# Altium integrated library TI Data Converters Analog to Digital Converter.IntLib: 2197 symbols (part 134 of 168)
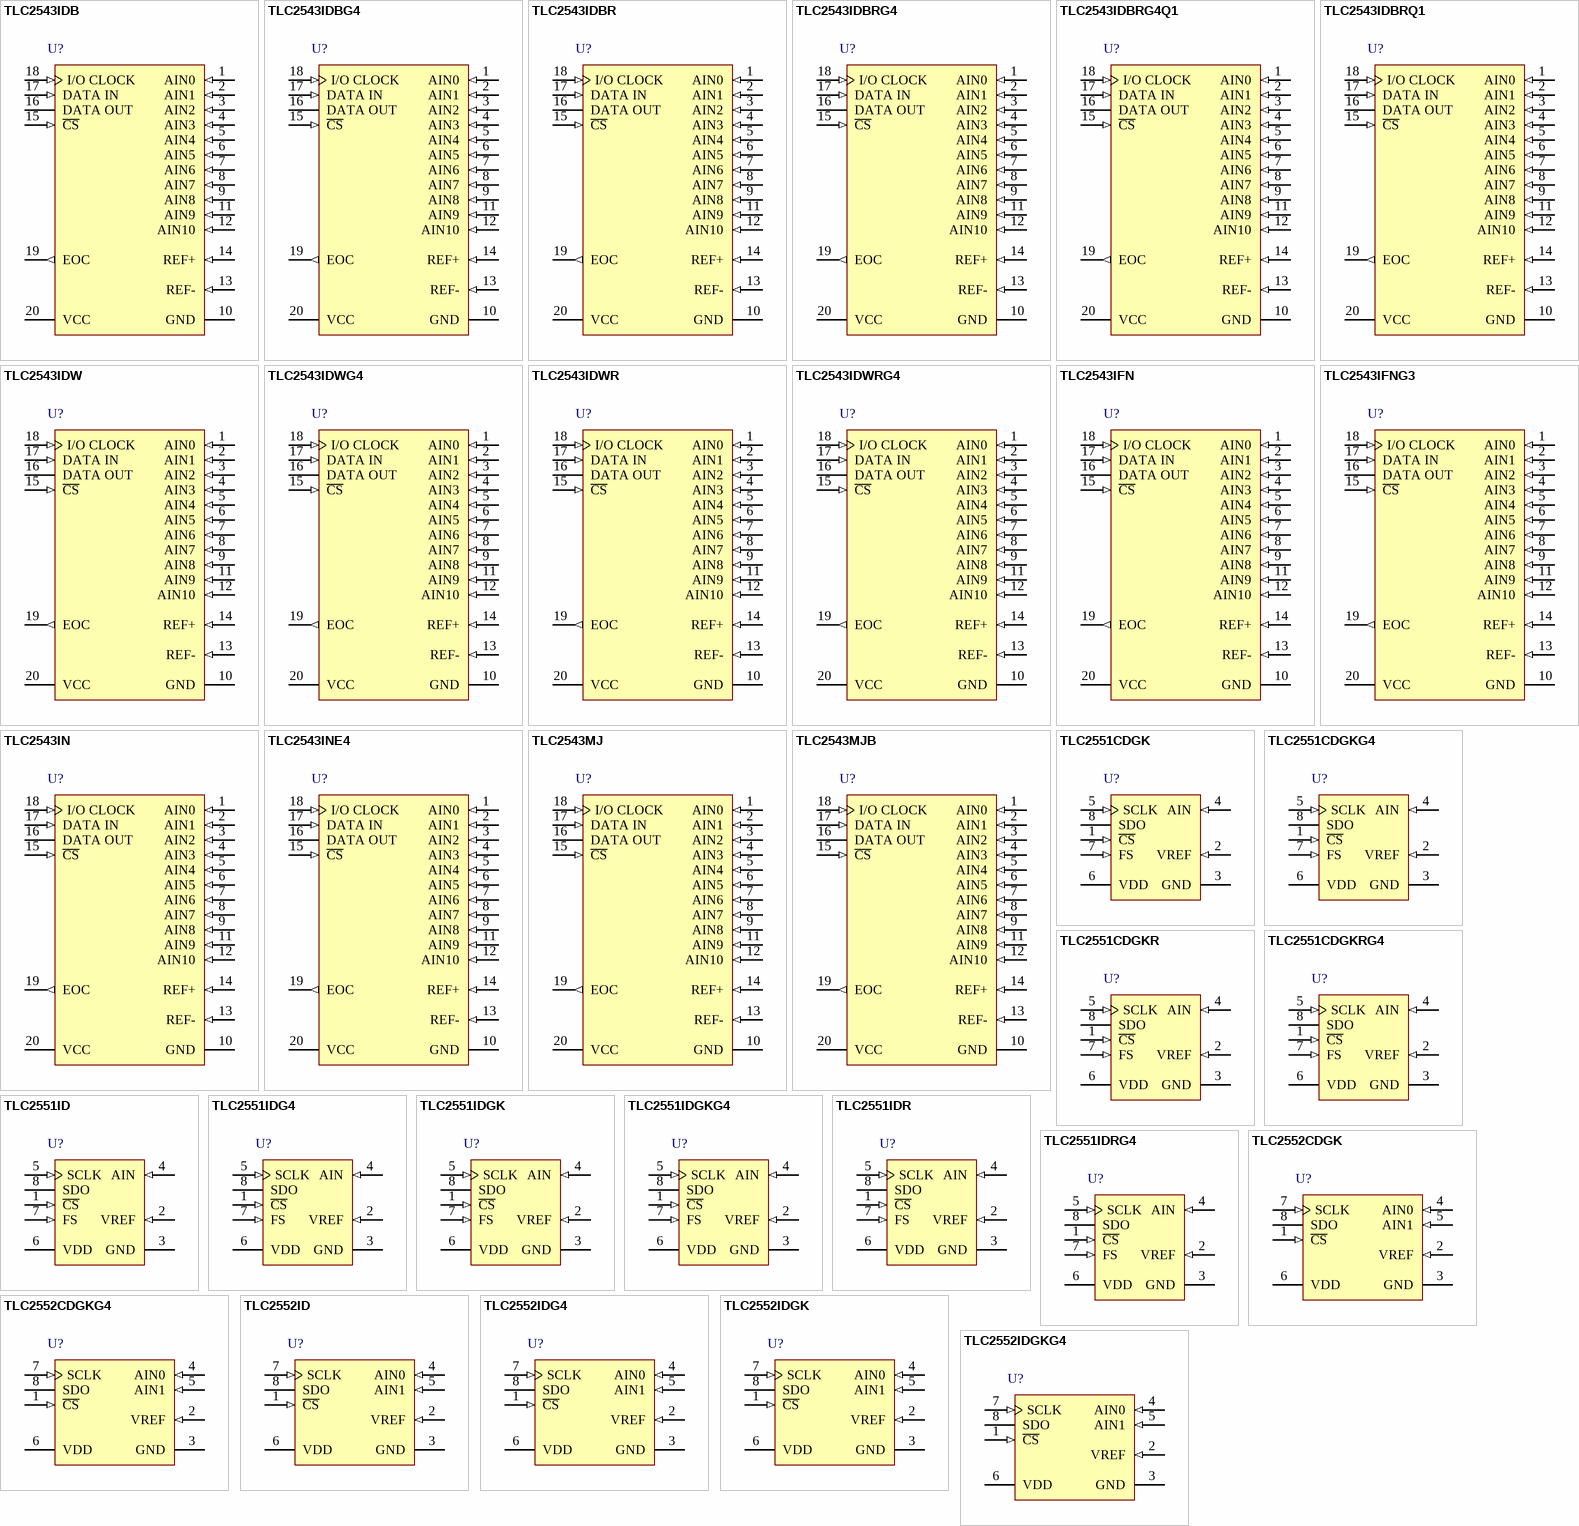
[diagram p259: symbols TLC2543IDB to TLC2552IDGKG4]

## TLC2543IFN
designator U?
12-Bit 66 kSPS ADC Serial Out, Programmable MSB / LSB First, Programmable Power Down / Output Data Length, 11 Channel, -40 to 85 degC, 20-pin PLCC (FN20), Green (RoHS & no Sb/Br); Manufacturer: Texas Instruments; PartNumber: TLC2543IFN; # Input Channels: 11; Analog Voltage AV/DD(Max)(V): 5.5; Analog Voltage AV/DD(Min)(V): 4.5; Architecture: SAR; INL(Max)(+/-LSB): 1; Interface: Serial SPI; Resolution(Bits): 12; Sample Rate (max)(SPS): 66k; SubFamily: Precision ADC (<=10MSPS); DatasheetVersion: SLAS079F; PackageVersion: 4040005/B, 03/1995; PackageReference: FN20; PackageDescription: 20-Pin Plastic Chip Carrier, Body 8.965 x 8.965 mm, Pitch 1.27 mm; Supplier 1: Digi-Key; Supplier Part Number 1: TLV1549IDG4-ND; Supplier 2: Mouser; Supplier Part Number 2: 595-TLV1549IDG4; Digital Supply(Max)(V): 5.5; Digital Supply(Min)(V): 4.5; Eco-Plan: Green (RoHS & no Sb/Br); Mounting Technology: Surface Mount; Code_JEDEC: MS-018; ComponentLink1Description: Manufacturer URL; ComponentLink1URL: http://www.ti.com/; ComponentLink2Description: Datasheet; ComponentLink2URL: http://www.ti.com/general/docs/lit/getliterature.tsp?genericPartNumber=TLC2543&fileType=pdf; ComponentLink3Description: Package Specification; ComponentLink3URL: http://www.ti.com/litv/pdf/mplc004a
footprint TI-FN20_N (PLCC, 20-Leads, Body 8.965x8.965mm, Pitch 1.27mm, IPC Medium Density)
footprint TI-FN20_L (PLCC, 20-Leads, Body 8.965x8.965mm, Pitch 1.27mm, IPC High Density)
footprint TI-FN20_M (PLCC, 20-Leads, Body 8.965x8.965mm, Pitch 1.27mm, IPC Low Density)
pins: 1 AIN0 (in) "Analog input. These 11 analog-signal inputs are internally multiplexed.", 2 AIN1 (in) "Analog input. These 11 analog-signal inputs are internally multiplexed.", 3 AIN2 (in) "Analog input. These 11 analog-signal inputs are internally multiplexed.", 4 AIN3 (in) "Analog input. These 11 analog-signal inputs are internally multiplexed.", 5 AIN4 (in) "Analog input. These 11 analog-signal inputs are internally multiplexed.", 6 AIN5 (in) "Analog input. These 11 analog-signal inputs are internally multiplexed.", 7 AIN6 (in) "Analog input. These 11 analog-signal inputs are internally multiplexed.", 8 AIN7 (in) "Analog input. These 11 analog-signal inputs are internally multiplexed.", 9 AIN8 (in) "Analog input. These 11 analog-signal inputs are internally multiplexed.", 10 GND (power) "Ground. GND is the ground return terminal for the internal circuitry. Unless otherwise noted, all voltage measurements are with respect to GND.", 11 AIN9 (in) "Analog input. These 11 analog-signal inputs are internally multiplexed.", 12 AIN10 (in) "Analog input. These 11 analog-signal inputs are internally multiplexed.", 13 REF- (in) "Negative reference voltage. The lower reference voltage value (nominally ground) is applied to REF-. This pin is connected to analog ground (GND of the ADC) when internal reference is used.", 14 REF+ (in) "Positive reference voltage The upper reference voltage value (nominally VCC) is applied to REF+. The maximum analog input voltage range is determined by the difference between the voltage applied to terminals REF+ and REF-.", 15 ~{CS} (in) "Chip select. A high-to-low transition on C\S\ resets the internal counters and controls and enables DATA OUT, DATA IN, and I/O CLOCK. A low-to-high transition disables DATA IN and I/O CLOCK within a setup time.", 16 DATA OUT (hiz) "The 3-state serial output for the A/D conversion result. DATA OUT is in the high-impedance state when C\S\ is high and active when C\S\ is low. With a valid C\S\, DATA OUT is removed from the high-impedance state and is (See Datasheet)", 17 DATA IN (in) "Serial data input. The 4-bit serial data can be used as address selects the desired analog input channel or test voltage to be converted next, or a command to activate other other features. The input data is presented with (See Datasheet)", 18 I/O CLOCK (in) "Input /output clock. I/O CLOCK receives the serial input and performs the following four functions:", 19 EOC (out) "Status output, used to indicate the end of conversion (EOC) to the host processor. EOC goes from a high to a low logic level after the falling edge of the last I/O CLOCK and remains low until the conversion is complete and (See Datasheet)", 20 VCC (power) "Positive supply voltage"

## TLC2543IFNG3
designator U?
12-Bit 66 kSPS ADC Serial Out, Programmable MSB / LSB First, Programmable Power Down / Output Data Length, 11 Channel, -40 to 85 degC, 20-pin PLCC (FN20), Green (RoHS & no Sb/Br); Manufacturer: Texas Instruments; PartNumber: TLC2543IFNG3; # Input Channels: 11; Analog Voltage AV/DD(Max)(V): 5.5; Analog Voltage AV/DD(Min)(V): 4.5; Architecture: SAR; INL(Max)(+/-LSB): 1; Interface: Serial SPI; Resolution(Bits): 12; Sample Rate (max)(SPS): 66k; SubFamily: Precision ADC (<=10MSPS); DatasheetVersion: SLAS079F; PackageVersion: 4040005/B, 03/1995; PackageReference: FN20; PackageDescription: 20-Pin Plastic Chip Carrier, Body 8.965 x 8.965 mm, Pitch 1.27 mm; Supplier 1: Digi-Key; Supplier Part Number 1: 296-2965-5-ND; Supplier 2: Mouser; Supplier Part Number 2: 595-TLV1549IP; Digital Supply(Max)(V): 5.5; Digital Supply(Min)(V): 4.5; Eco-Plan: Green (RoHS & no Sb/Br); Mounting Technology: Surface Mount; Code_JEDEC: MS-018; ComponentLink1Description: Manufacturer URL; ComponentLink1URL: http://www.ti.com/; ComponentLink2Description: Datasheet; ComponentLink2URL: http://www.ti.com/general/docs/lit/getliterature.tsp?genericPartNumber=TLC2543&fileType=pdf; ComponentLink3Description: Package Specification; ComponentLink3URL: http://www.ti.com/litv/pdf/mplc004a
footprint TI-FN20_N (PLCC, 20-Leads, Body 8.965x8.965mm, Pitch 1.27mm, IPC Medium Density)
footprint TI-FN20_L (PLCC, 20-Leads, Body 8.965x8.965mm, Pitch 1.27mm, IPC High Density)
footprint TI-FN20_M (PLCC, 20-Leads, Body 8.965x8.965mm, Pitch 1.27mm, IPC Low Density)
pins: 1 AIN0 (in) "Analog input. These 11 analog-signal inputs are internally multiplexed.", 2 AIN1 (in) "Analog input. These 11 analog-signal inputs are internally multiplexed.", 3 AIN2 (in) "Analog input. These 11 analog-signal inputs are internally multiplexed.", 4 AIN3 (in) "Analog input. These 11 analog-signal inputs are internally multiplexed.", 5 AIN4 (in) "Analog input. These 11 analog-signal inputs are internally multiplexed.", 6 AIN5 (in) "Analog input. These 11 analog-signal inputs are internally multiplexed.", 7 AIN6 (in) "Analog input. These 11 analog-signal inputs are internally multiplexed.", 8 AIN7 (in) "Analog input. These 11 analog-signal inputs are internally multiplexed.", 9 AIN8 (in) "Analog input. These 11 analog-signal inputs are internally multiplexed.", 10 GND (power) "Ground. GND is the ground return terminal for the internal circuitry. Unless otherwise noted, all voltage measurements are with respect to GND.", 11 AIN9 (in) "Analog input. These 11 analog-signal inputs are internally multiplexed.", 12 AIN10 (in) "Analog input. These 11 analog-signal inputs are internally multiplexed.", 13 REF- (in) "Negative reference voltage. The lower reference voltage value (nominally ground) is applied to REF-. This pin is connected to analog ground (GND of the ADC) when internal reference is used.", 14 REF+ (in) "Positive reference voltage The upper reference voltage value (nominally VCC) is applied to REF+. The maximum analog input voltage range is determined by the difference between the voltage applied to terminals REF+ and REF-.", 15 ~{CS} (in) "Chip select. A high-to-low transition on C\S\ resets the internal counters and controls and enables DATA OUT, DATA IN, and I/O CLOCK. A low-to-high transition disables DATA IN and I/O CLOCK within a setup time.", 16 DATA OUT (hiz) "The 3-state serial output for the A/D conversion result. DATA OUT is in the high-impedance state when C\S\ is high and active when C\S\ is low. With a valid C\S\, DATA OUT is removed from the high-impedance state and is (See Datasheet)", 17 DATA IN (in) "Serial data input. The 4-bit serial data can be used as address selects the desired analog input channel or test voltage to be converted next, or a command to activate other other features. The input data is presented with (See Datasheet)", 18 I/O CLOCK (in) "Input /output clock. I/O CLOCK receives the serial input and performs the following four functions:", 19 EOC (out) "Status output, used to indicate the end of conversion (EOC) to the host processor. EOC goes from a high to a low logic level after the falling edge of the last I/O CLOCK and remains low until the conversion is complete and (See Datasheet)", 20 VCC (power) "Positive supply voltage"

## TLC2543IN
designator U?
12-Bit 66 kSPS ADC Serial Out, Programmable MSB / LSB First, Programmable Power Down / Output Data Length, 11 Channel, -40 to 85 degC, 20-pin DIP (N20), Pb-Free (RoHS); Manufacturer: Texas Instruments; PartNumber: TLC2543IN; # Input Channels: 11; Analog Voltage AV/DD(Max)(V): 5.5; Analog Voltage AV/DD(Min)(V): 4.5; Architecture: SAR; INL(Max)(+/-LSB): 1; Interface: Serial SPI; Resolution(Bits): 12; Sample Rate (max)(SPS): 66k; SubFamily: Precision ADC (<=10MSPS); DatasheetVersion: SLAS079F; PackageVersion: 4040049/E, 12/2002; PackageReference: N20; PackageDescription: 20-Pin Plastic In-Line, Body 25.40 x 6.35 mm, Pitch 2.54 mm; Supplier 1: Digi-Key; Supplier Part Number 1: TLV1549IPE4-ND; Supplier 2: Mouser; Supplier Part Number 2: 595-TLV1549IPE4; Digital Supply(Max)(V): 5.5; Digital Supply(Min)(V): 4.5; Eco-Plan: Pb-Free (RoHS); Mounting Technology: Through Hole; Code_JEDEC: MS-001; ComponentLink1Description: Manufacturer URL; ComponentLink1URL: http://www.ti.com/; ComponentLink2Description: Datasheet; ComponentLink2URL: http://www.ti.com/general/docs/lit/getliterature.tsp?genericPartNumber=TLC2543&fileType=pdf; ComponentLink3Description: Package Specification; ComponentLink3URL: http://www.ti.com/lit/ml/mpdi002c/mpdi002c.pdf
footprint TI-N20 (DIP, 20-Leads, Body 25.4x6.35 mm, Pitch 2.54 mm)
pins: 1 AIN0 (in) "Analog input. These 11 analog-signal inputs are internally multiplexed.", 2 AIN1 (in) "Analog input. These 11 analog-signal inputs are internally multiplexed.", 3 AIN2 (in) "Analog input. These 11 analog-signal inputs are internally multiplexed.", 4 AIN3 (in) "Analog input. These 11 analog-signal inputs are internally multiplexed.", 5 AIN4 (in) "Analog input. These 11 analog-signal inputs are internally multiplexed.", 6 AIN5 (in) "Analog input. These 11 analog-signal inputs are internally multiplexed.", 7 AIN6 (in) "Analog input. These 11 analog-signal inputs are internally multiplexed.", 8 AIN7 (in) "Analog input. These 11 analog-signal inputs are internally multiplexed.", 9 AIN8 (in) "Analog input. These 11 analog-signal inputs are internally multiplexed.", 10 GND (power) "Ground. GND is the ground return terminal for the internal circuitry. Unless otherwise noted, all voltage measurements are with respect to GND.", 11 AIN9 (in) "Analog input. These 11 analog-signal inputs are internally multiplexed.", 12 AIN10 (in) "Analog input. These 11 analog-signal inputs are internally multiplexed.", 13 REF- (in) "Negative reference voltage. The lower reference voltage value (nominally ground) is applied to REF-. This pin is connected to analog ground (GND of the ADC) when internal reference is used.", 14 REF+ (in) "Positive reference voltage The upper reference voltage value (nominally VCC) is applied to REF+. The maximum analog input voltage range is determined by the difference between the voltage applied to terminals REF+ and REF-.", 15 ~{CS} (in) "Chip select. A high-to-low transition on C\S\ resets the internal counters and controls and enables DATA OUT, DATA IN, and I/O CLOCK. A low-to-high transition disables DATA IN and I/O CLOCK within a setup time.", 16 DATA OUT (hiz) "The 3-state serial output for the A/D conversion result. DATA OUT is in the high-impedance state when C\S\ is high and active when C\S\ is low. With a valid C\S\, DATA OUT is removed from the high-impedance state and is (See Datasheet)", 17 DATA IN (in) "Serial data input. The 4-bit serial data can be used as address selects the desired analog input channel or test voltage to be converted next, or a command to activate other other features. The input data is presented with (See Datasheet)", 18 I/O CLOCK (in) "Input /output clock. I/O CLOCK receives the serial input and performs the following four functions:", 19 EOC (out) "Status output, used to indicate the end of conversion (EOC) to the host processor. EOC goes from a high to a low logic level after the falling edge of the last I/O CLOCK and remains low until the conversion is complete and (See Datasheet)", 20 VCC (power) "Positive supply voltage"

## TLC2543INE4
designator U?
12-Bit 66 kSPS ADC Serial Out, Programmable MSB / LSB First, Programmable Power Down / Output Data Length, 11 Channel, -40 to 85 degC, 20-pin DIP (N20), Pb-Free (RoHS); Manufacturer: Texas Instruments; PartNumber: TLC2543INE4; # Input Channels: 11; Analog Voltage AV/DD(Max)(V): 5.5; Analog Voltage AV/DD(Min)(V): 4.5; Architecture: SAR; INL(Max)(+/-LSB): 1; Interface: Serial SPI; Resolution(Bits): 12; Sample Rate (max)(SPS): 66k; SubFamily: Precision ADC (<=10MSPS); DatasheetVersion: SLAS079F; PackageVersion: 4040049/E, 12/2002; PackageReference: N20; PackageDescription: 20-Pin Plastic In-Line, Body 25.40 x 6.35 mm, Pitch 2.54 mm; Supplier 1: Digi-Key; Supplier Part Number 1: 296-2952-5-ND; Supplier 2: Newark; Supplier Part Number 2: 76C7757; Supplier 3: Mouser; Supplier Part Number 3: 595-TLV0838CDW; Digital Supply(Max)(V): 5.5; Digital Supply(Min)(V): 4.5; Eco-Plan: Pb-Free (RoHS); Mounting Technology: Through Hole; Code_JEDEC: MS-001; ComponentLink1Description: Manufacturer URL; ComponentLink1URL: http://www.ti.com/; ComponentLink2Description: Datasheet; ComponentLink2URL: http://www.ti.com/general/docs/lit/getliterature.tsp?genericPartNumber=TLC2543&fileType=pdf; ComponentLink3Description: Package Specification; ComponentLink3URL: http://www.ti.com/lit/ml/mpdi002c/mpdi002c.pdf
footprint TI-N20 (DIP, 20-Leads, Body 25.4x6.35 mm, Pitch 2.54 mm)
pins: 1 AIN0 (in) "Analog input. These 11 analog-signal inputs are internally multiplexed.", 2 AIN1 (in) "Analog input. These 11 analog-signal inputs are internally multiplexed.", 3 AIN2 (in) "Analog input. These 11 analog-signal inputs are internally multiplexed.", 4 AIN3 (in) "Analog input. These 11 analog-signal inputs are internally multiplexed.", 5 AIN4 (in) "Analog input. These 11 analog-signal inputs are internally multiplexed.", 6 AIN5 (in) "Analog input. These 11 analog-signal inputs are internally multiplexed.", 7 AIN6 (in) "Analog input. These 11 analog-signal inputs are internally multiplexed.", 8 AIN7 (in) "Analog input. These 11 analog-signal inputs are internally multiplexed.", 9 AIN8 (in) "Analog input. These 11 analog-signal inputs are internally multiplexed.", 10 GND (power) "Ground. GND is the ground return terminal for the internal circuitry. Unless otherwise noted, all voltage measurements are with respect to GND.", 11 AIN9 (in) "Analog input. These 11 analog-signal inputs are internally multiplexed.", 12 AIN10 (in) "Analog input. These 11 analog-signal inputs are internally multiplexed.", 13 REF- (in) "Negative reference voltage. The lower reference voltage value (nominally ground) is applied to REF-. This pin is connected to analog ground (GND of the ADC) when internal reference is used.", 14 REF+ (in) "Positive reference voltage The upper reference voltage value (nominally VCC) is applied to REF+. The maximum analog input voltage range is determined by the difference between the voltage applied to terminals REF+ and REF-.", 15 ~{CS} (in) "Chip select. A high-to-low transition on C\S\ resets the internal counters and controls and enables DATA OUT, DATA IN, and I/O CLOCK. A low-to-high transition disables DATA IN and I/O CLOCK within a setup time.", 16 DATA OUT (hiz) "The 3-state serial output for the A/D conversion result. DATA OUT is in the high-impedance state when C\S\ is high and active when C\S\ is low. With a valid C\S\, DATA OUT is removed from the high-impedance state and is (See Datasheet)", 17 DATA IN (in) "Serial data input. The 4-bit serial data can be used as address selects the desired analog input channel or test voltage to be converted next, or a command to activate other other features. The input data is presented with (See Datasheet)", 18 I/O CLOCK (in) "Input /output clock. I/O CLOCK receives the serial input and performs the following four functions:", 19 EOC (out) "Status output, used to indicate the end of conversion (EOC) to the host processor. EOC goes from a high to a low logic level after the falling edge of the last I/O CLOCK and remains low until the conversion is complete and (See Datasheet)", 20 VCC (power) "Positive supply voltage"

## TLC2543MJ
designator U?
12-Bit 66 kSPS ADC Serial Out, Programmable MSB / LSB First, Programmable Power Down / Output Data Length, 11 Channel, -55 to 125 degC, 20-pin DIP (J20); Manufacturer: Texas Instruments; PartNumber: TLC2543MJ; # Input Channels: 11; Analog Voltage AV/DD(Max)(V): 5.5; Analog Voltage AV/DD(Min)(V): 4.5; Architecture: SAR; INL(Max)(+/-LSB): 1; Resolution(Bits): 12; SubFamily: Low Power, 8-Bit, Dual 1.5 GSPS or Single 3.0 GSPS A/D Converter; DatasheetVersion: SLAS079F; PackageVersion: 4040083/F, 03/2003; PackageReference: J20; PackageDescription: 20-Pin Ceramic, Glass In-Line, Body 26.92 x 6.92 mm, Pitch 2.54 mm; Supplier 1: Digi-Key; Supplier Part Number 1: TLV0838CDWG4-ND; Supplier 2: Mouser; Supplier Part Number 2: 595-TLV0838CDWG4; Digital Supply(Max)(V): 5.5; Digital Supply(Min)(V): 4.5; Mounting Technology: Through Hole; ComponentLink1Description: Manufacturer URL; ComponentLink1URL: http://www.ti.com/; ComponentLink2Description: Datasheet; ComponentLink2URL: http://www.ti.com/general/docs/lit/getliterature.tsp?genericPartNumber=TLC2543M&fileType=pdf; ComponentLink3Description: Package Specification; ComponentLink3URL: http://www.ti.com/litv/pdf/mcer002d
footprint TI-J20 (DIP, 20-Leads, Body 26.92x6.92mm, Pitch 2.54mm)
pins: 1 AIN0 (in) "Analog input. These 11 analog-signal inputs are internally multiplexed.", 2 AIN1 (in) "Analog input. These 11 analog-signal inputs are internally multiplexed.", 3 AIN2 (in) "Analog input. These 11 analog-signal inputs are internally multiplexed.", 4 AIN3 (in) "Analog input. These 11 analog-signal inputs are internally multiplexed.", 5 AIN4 (in) "Analog input. These 11 analog-signal inputs are internally multiplexed.", 6 AIN5 (in) "Analog input. These 11 analog-signal inputs are internally multiplexed.", 7 AIN6 (in) "Analog input. These 11 analog-signal inputs are internally multiplexed.", 8 AIN7 (in) "Analog input. These 11 analog-signal inputs are internally multiplexed.", 9 AIN8 (in) "Analog input. These 11 analog-signal inputs are internally multiplexed.", 10 GND (power) "Ground. GND is the ground return terminal for the internal circuitry. Unless otherwise noted, all voltage measurements are with respect to GND.", 11 AIN9 (in) "Analog input. These 11 analog-signal inputs are internally multiplexed.", 12 AIN10 (in) "Analog input. These 11 analog-signal inputs are internally multiplexed.", 13 REF- (in) "Negative reference voltage. The lower reference voltage value (nominally ground) is applied to REF-. This pin is connected to analog ground (GND of the ADC) when internal reference is used.", 14 REF+ (in) "Positive reference voltage The upper reference voltage value (nominally VCC) is applied to REF+. The maximum analog input voltage range is determined by the difference between the voltage applied to terminals REF+ and REF-.", 15 ~{CS} (in) "Chip select. A high-to-low transition on C\S\ resets the internal counters and controls and enables DATA OUT, DATA IN, and I/O CLOCK. A low-to-high transition disables DATA IN and I/O CLOCK within a setup time.", 16 DATA OUT (hiz) "The 3-state serial output for the A/D conversion result. DATA OUT is in the high-impedance state when C\S\ is high and active when C\S\ is low. With a valid C\S\, DATA OUT is removed from the high-impedance state and is (See Datasheet)", 17 DATA IN (in) "Serial data input. The 4-bit serial data can be used as address selects the desired analog input channel or test voltage to be converted next, or a command to activate other other features. The input data is presented with (See Datasheet)", 18 I/O CLOCK (in) "Input /output clock. I/O CLOCK receives the serial input and performs the following four functions:", 19 EOC (out) "Status output, used to indicate the end of conversion (EOC) to the host processor. EOC goes from a high to a low logic level after the falling edge of the last I/O CLOCK and remains low until the conversion is complete and (See Datasheet)", 20 VCC (power) "Positive supply voltage"

## TLC2543MJB
designator U?
12-Bit 66 kSPS ADC Serial Out, Programmable MSB / LSB First, Programmable Power Down / Output Data Length, 11 Channel, -55 to 125 degC, 20-pin DIP (J20); Manufacturer: Texas Instruments; PartNumber: TLC2543MJB; # Input Channels: 11; Analog Voltage AV/DD(Max)(V): 5.5; Analog Voltage AV/DD(Min)(V): 4.5; Architecture: SAR; INL(Max)(+/-LSB): 1; Resolution(Bits): 12; SubFamily: Low Power, 8-Bit, Dual 1.5 GSPS or Single 3.0 GSPS A/D Converter; DatasheetVersion: SLAS079F; PackageVersion: 4040083/F, 03/2003; PackageReference: J20; PackageDescription: 20-Pin Ceramic, Glass In-Line, Body 26.92 x 6.92 mm, Pitch 2.54 mm; Supplier 1: Digi-Key; Supplier Part Number 1: TLV0838CDWR-ND; Supplier 2: Newark; Supplier Part Number 2: 76C7758; Supplier 3: Mouser; Supplier Part Number 3: 595-TLV0838CDWR; Digital Supply(Max)(V): 5.5; Digital Supply(Min)(V): 4.5; Mounting Technology: Through Hole; ComponentLink1Description: Manufacturer URL; ComponentLink1URL: http://www.ti.com/; ComponentLink2Description: Datasheet; ComponentLink2URL: http://www.ti.com/general/docs/lit/getliterature.tsp?genericPartNumber=TLC2543M&fileType=pdf; ComponentLink3Description: Package Specification; ComponentLink3URL: http://www.ti.com/litv/pdf/mcer002d
footprint TI-J20 (DIP, 20-Leads, Body 26.92x6.92mm, Pitch 2.54mm)
pins: 1 AIN0 (in) "Analog input. These 11 analog-signal inputs are internally multiplexed.", 2 AIN1 (in) "Analog input. These 11 analog-signal inputs are internally multiplexed.", 3 AIN2 (in) "Analog input. These 11 analog-signal inputs are internally multiplexed.", 4 AIN3 (in) "Analog input. These 11 analog-signal inputs are internally multiplexed.", 5 AIN4 (in) "Analog input. These 11 analog-signal inputs are internally multiplexed.", 6 AIN5 (in) "Analog input. These 11 analog-signal inputs are internally multiplexed.", 7 AIN6 (in) "Analog input. These 11 analog-signal inputs are internally multiplexed.", 8 AIN7 (in) "Analog input. These 11 analog-signal inputs are internally multiplexed.", 9 AIN8 (in) "Analog input. These 11 analog-signal inputs are internally multiplexed.", 10 GND (power) "Ground. GND is the ground return terminal for the internal circuitry. Unless otherwise noted, all voltage measurements are with respect to GND.", 11 AIN9 (in) "Analog input. These 11 analog-signal inputs are internally multiplexed.", 12 AIN10 (in) "Analog input. These 11 analog-signal inputs are internally multiplexed.", 13 REF- (in) "Negative reference voltage. The lower reference voltage value (nominally ground) is applied to REF-. This pin is connected to analog ground (GND of the ADC) when internal reference is used.", 14 REF+ (in) "Positive reference voltage The upper reference voltage value (nominally VCC) is applied to REF+. The maximum analog input voltage range is determined by the difference between the voltage applied to terminals REF+ and REF-.", 15 ~{CS} (in) "Chip select. A high-to-low transition on C\S\ resets the internal counters and controls and enables DATA OUT, DATA IN, and I/O CLOCK. A low-to-high transition disables DATA IN and I/O CLOCK within a setup time.", 16 DATA OUT (hiz) "The 3-state serial output for the A/D conversion result. DATA OUT is in the high-impedance state when C\S\ is high and active when C\S\ is low. With a valid C\S\, DATA OUT is removed from the high-impedance state and is (See Datasheet)", 17 DATA IN (in) "Serial data input. The 4-bit serial data can be used as address selects the desired analog input channel or test voltage to be converted next, or a command to activate other other features. The input data is presented with (See Datasheet)", 18 I/O CLOCK (in) "Input /output clock. I/O CLOCK receives the serial input and performs the following four functions:", 19 EOC (out) "Status output, used to indicate the end of conversion (EOC) to the host processor. EOC goes from a high to a low logic level after the falling edge of the last I/O CLOCK and remains low until the conversion is complete and (See Datasheet)", 20 VCC (power) "Positive supply voltage"

## TLC2551CDGK
designator U?
12-Bit, 400 kSPS ADC, Serial Out, TMS320 Compatible (up to 10 MHz), Single Channel, 0 to 70 degC, 8-pin SOP (DGK8), Green (RoHS & no Sb/Br); Manufacturer: Texas Instruments; PartNumber: TLC2551CDGK; # Input Channels: 1; Analog Voltage AV/DD(Max)(V): 5.5; Analog Voltage AV/DD(Min)(V): 4.5; Architecture: SAR; ENOB(Bits): 11.8; Interface: Serial SPI; Resolution(Bits): 12; Sample Rate (max)(SPS): 400k; SFDR(dB): 84; SINAD(dB): 72; SubFamily: Precision ADC (<=10MSPS); DatasheetVersion: SLAS276D; PackageVersion: 4073329/E, 05/2006; PackageReference: DGK8; PackageDescription: 8-Pin Thin Small Outline, Body 3 x 3 mm, Pitch 0.65 mm; Supplier 1: Digi-Key; Supplier Part Number 1: TLV0838CDWRG4-ND; Supplier 2: Mouser; Supplier Part Number 2: 595-TLV0838CDWRG4; Digital Supply(Max)(V): 5.5; Digital Supply(Min)(V): 4.5; Eco-Plan: Green (RoHS & no Sb/Br); INL(Max)(+/-LSB): 1; Mounting Technology: Surface Mount; Code_JEDEC: MO-187; ComponentLink1Description: Manufacturer URL; ComponentLink1URL: http://www.ti.com/; ComponentLink2Description: Datasheet; ComponentLink2URL: http://www.ti.com/general/docs/lit/getliterature.tsp?genericPartNumber=TLC2551&fileType=pdf; ComponentLink3Description: Package Specification; ComponentLink3URL: http://www.ti.com/litv/pdf/mpds028d
footprint TI-DGK8_N (SOP, 8-Leads, Body 3x3mm, Pitch 0.65mm, IPC Medium Density)
footprint TI-DGK8_L (SOP, 8-Leads, Body 3x3mm, Pitch 0.65mm, IPC High Density)
footprint TI-DGK8_M (SOP, 8-Leads, Body 3x3mm, Pitch 0.65mm, IPC Low Density)
pins: 1 ~{CS} (in) "Chip select. A high-to-low transition on the C\S\ input removes SDO from 3-state within a maximum setup time. C\S\ can be used as the FS pin when a dedicated DSP serial port is used.", 2 VREF (in) "External reference input", 3 GND (power) "Ground return for the internal circuitry. Unless otherwise noted, all voltage measurements are with respect to GND.", 4 AIN (in) "Analog input channel", 5 SCLK (in) "Output serial clock. This terminal receives the serial SCLK from the host processor.", 6 VDD (power) "Positive supply voltage", 7 FS (in) "DSP frame sync input. Indication of the start of a serial data frame. Tie this terminal to VDD if not used.", 8 SDO (hiz) "The 3-state serial output for the A/D conversion result. SDO is kept in the high-impedance state until C\S\ falling edge or FS rising edge, whichever occurs first. The output format is MSB first. When FS is not used (FS = 1 (See Datasheet)"

## TLC2551CDGKG4
designator U?
12-Bit, 400 kSPS ADC, Serial Out, TMS320 Compatible (up to 10 MHz), Single Channel, 0 to 70 degC, 8-pin SOP (DGK8), Green (RoHS & no Sb/Br); Manufacturer: Texas Instruments; PartNumber: TLC2551CDGKG4; # Input Channels: 1; Analog Voltage AV/DD(Max)(V): 5.5; Analog Voltage AV/DD(Min)(V): 4.5; Architecture: SAR; ENOB(Bits): 11.8; Interface: Serial SPI; Resolution(Bits): 12; Sample Rate (max)(SPS): 400k; SFDR(dB): 84; SINAD(dB): 72; SubFamily: Precision ADC (<=10MSPS); DatasheetVersion: SLAS276D; PackageVersion: 4073329/E, 05/2006; PackageReference: DGK8; PackageDescription: 8-Pin Thin Small Outline, Body 3 x 3 mm, Pitch 0.65 mm; Supplier 1: Digi-Key; Supplier Part Number 1: 296-34397-5-ND; Supplier 2: Mouser; Supplier Part Number 2: 595-TLV0838CN; Digital Supply(Max)(V): 5.5; Digital Supply(Min)(V): 4.5; Eco-Plan: Green (RoHS & no Sb/Br); INL(Max)(+/-LSB): 1; Mounting Technology: Surface Mount; Code_JEDEC: MO-187; ComponentLink1Description: Manufacturer URL; ComponentLink1URL: http://www.ti.com/; ComponentLink2Description: Datasheet; ComponentLink2URL: http://www.ti.com/general/docs/lit/getliterature.tsp?genericPartNumber=TLC2551&fileType=pdf; ComponentLink3Description: Package Specification; ComponentLink3URL: http://www.ti.com/litv/pdf/mpds028d
footprint TI-DGK8_N (SOP, 8-Leads, Body 3x3mm, Pitch 0.65mm, IPC Medium Density)
footprint TI-DGK8_L (SOP, 8-Leads, Body 3x3mm, Pitch 0.65mm, IPC High Density)
footprint TI-DGK8_M (SOP, 8-Leads, Body 3x3mm, Pitch 0.65mm, IPC Low Density)
pins: 1 ~{CS} (in) "Chip select. A high-to-low transition on the C\S\ input removes SDO from 3-state within a maximum setup time. C\S\ can be used as the FS pin when a dedicated DSP serial port is used.", 2 VREF (in) "External reference input", 3 GND (power) "Ground return for the internal circuitry. Unless otherwise noted, all voltage measurements are with respect to GND.", 4 AIN (in) "Analog input channel", 5 SCLK (in) "Output serial clock. This terminal receives the serial SCLK from the host processor.", 6 VDD (power) "Positive supply voltage", 7 FS (in) "DSP frame sync input. Indication of the start of a serial data frame. Tie this terminal to VDD if not used.", 8 SDO (hiz) "The 3-state serial output for the A/D conversion result. SDO is kept in the high-impedance state until C\S\ falling edge or FS rising edge, whichever occurs first. The output format is MSB first. When FS is not used (FS = 1 (See Datasheet)"

## TLC2551CDGKR
designator U?
12-Bit, 400 kSPS ADC, Serial Out, TMS320 Compatible (up to 10 MHz), Single Channel, 0 to 70 degC, 8-pin SOP (DGK8), Green (RoHS & no Sb/Br); Manufacturer: Texas Instruments; PartNumber: TLC2551CDGKR; # Input Channels: 1; Analog Voltage AV/DD(Max)(V): 5.5; Analog Voltage AV/DD(Min)(V): 4.5; Architecture: SAR; ENOB(Bits): 11.8; Interface: Serial SPI; Resolution(Bits): 12; Sample Rate (max)(SPS): 400k; SFDR(dB): 84; SINAD(dB): 72; SubFamily: Precision ADC (<=10MSPS); DatasheetVersion: SLAS276D; PackageVersion: 4073329/E, 05/2006; PackageReference: DGK8; PackageDescription: 8-Pin Thin Small Outline, Body 3 x 3 mm, Pitch 0.65 mm; Supplier 1: Digi-Key; Supplier Part Number 1: TLV0838CNE4-ND; Supplier 2: Mouser; Supplier Part Number 2: 595-TLV0838CNE4; Digital Supply(Max)(V): 5.5; Digital Supply(Min)(V): 4.5; Eco-Plan: Green (RoHS & no Sb/Br); INL(Max)(+/-LSB): 1; Mounting Technology: Surface Mount; Code_JEDEC: MO-187; ComponentLink1Description: Manufacturer URL; ComponentLink1URL: http://www.ti.com/; ComponentLink2Description: Datasheet; ComponentLink2URL: http://www.ti.com/general/docs/lit/getliterature.tsp?genericPartNumber=TLC2551&fileType=pdf; ComponentLink3Description: Package Specification; ComponentLink3URL: http://www.ti.com/litv/pdf/mpds028d
footprint TI-DGK8_N (SOP, 8-Leads, Body 3x3mm, Pitch 0.65mm, IPC Medium Density)
footprint TI-DGK8_L (SOP, 8-Leads, Body 3x3mm, Pitch 0.65mm, IPC High Density)
footprint TI-DGK8_M (SOP, 8-Leads, Body 3x3mm, Pitch 0.65mm, IPC Low Density)
pins: 1 ~{CS} (in) "Chip select. A high-to-low transition on the C\S\ input removes SDO from 3-state within a maximum setup time. C\S\ can be used as the FS pin when a dedicated DSP serial port is used.", 2 VREF (in) "External reference input", 3 GND (power) "Ground return for the internal circuitry. Unless otherwise noted, all voltage measurements are with respect to GND.", 4 AIN (in) "Analog input channel", 5 SCLK (in) "Output serial clock. This terminal receives the serial SCLK from the host processor.", 6 VDD (power) "Positive supply voltage", 7 FS (in) "DSP frame sync input. Indication of the start of a serial data frame. Tie this terminal to VDD if not used.", 8 SDO (hiz) "The 3-state serial output for the A/D conversion result. SDO is kept in the high-impedance state until C\S\ falling edge or FS rising edge, whichever occurs first. The output format is MSB first. When FS is not used (FS = 1 (See Datasheet)"

## TLC2551CDGKRG4
designator U?
12-Bit, 400 kSPS ADC, Serial Out, TMS320 Compatible (up to 10 MHz), Single Channel, 0 to 70 degC, 8-pin SOP (DGK8), Green (RoHS & no Sb/Br); Manufacturer: Texas Instruments; PartNumber: TLC2551CDGKRG4; # Input Channels: 1; Analog Voltage AV/DD(Max)(V): 5.5; Analog Voltage AV/DD(Min)(V): 4.5; Architecture: SAR; ENOB(Bits): 11.8; Interface: Serial SPI; Resolution(Bits): 12; Sample Rate (max)(SPS): 400k; SFDR(dB): 84; SINAD(dB): 72; SubFamily: Precision ADC (<=10MSPS); DatasheetVersion: SLAS276D; PackageVersion: 4073329/E, 05/2006; PackageReference: DGK8; PackageDescription: 8-Pin Thin Small Outline, Body 3 x 3 mm, Pitch 0.65 mm; Supplier 1: Digi-Key; Supplier Part Number 1: 296-34398-5-ND; Supplier 2: Mouser; Supplier Part Number 2: 595-TLV0838CPW; Digital Supply(Max)(V): 5.5; Digital Supply(Min)(V): 4.5; Eco-Plan: Green (RoHS & no Sb/Br); INL(Max)(+/-LSB): 1; Mounting Technology: Surface Mount; Code_JEDEC: MO-187; ComponentLink1Description: Manufacturer URL; ComponentLink1URL: http://www.ti.com/; ComponentLink2Description: Datasheet; ComponentLink2URL: http://www.ti.com/general/docs/lit/getliterature.tsp?genericPartNumber=TLC2551&fileType=pdf; ComponentLink3Description: Package Specification; ComponentLink3URL: http://www.ti.com/litv/pdf/mpds028d
footprint TI-DGK8_N (SOP, 8-Leads, Body 3x3mm, Pitch 0.65mm, IPC Medium Density)
footprint TI-DGK8_L (SOP, 8-Leads, Body 3x3mm, Pitch 0.65mm, IPC High Density)
footprint TI-DGK8_M (SOP, 8-Leads, Body 3x3mm, Pitch 0.65mm, IPC Low Density)
pins: 1 ~{CS} (in) "Chip select. A high-to-low transition on the C\S\ input removes SDO from 3-state within a maximum setup time. C\S\ can be used as the FS pin when a dedicated DSP serial port is used.", 2 VREF (in) "External reference input", 3 GND (power) "Ground return for the internal circuitry. Unless otherwise noted, all voltage measurements are with respect to GND.", 4 AIN (in) "Analog input channel", 5 SCLK (in) "Output serial clock. This terminal receives the serial SCLK from the host processor.", 6 VDD (power) "Positive supply voltage", 7 FS (in) "DSP frame sync input. Indication of the start of a serial data frame. Tie this terminal to VDD if not used.", 8 SDO (hiz) "The 3-state serial output for the A/D conversion result. SDO is kept in the high-impedance state until C\S\ falling edge or FS rising edge, whichever occurs first. The output format is MSB first. When FS is not used (FS = 1 (See Datasheet)"

## TLC2551ID
designator U?
12-Bit, 400 kSPS ADC, Serial Out, TMS320 Compatible (up to 10 MHz), Single Channel, -40 to 85 degC, 8-pin SOIC (D8), Green (RoHS & no Sb/Br); Manufacturer: Texas Instruments; PartNumber: TLC2551ID; # Input Channels: 1; Analog Voltage AV/DD(Max)(V): 5.5; Analog Voltage AV/DD(Min)(V): 4.5; Architecture: SAR; ENOB(Bits): 11.8; Interface: Serial SPI; Resolution(Bits): 12; Sample Rate (max)(SPS): 400k; SFDR(dB): 84; SINAD(dB): 72; SubFamily: Precision ADC (<=10MSPS); DatasheetVersion: SLAS276D; PackageVersion: 4040047-3/M, 06/2011; PackageReference: D8; PackageDescription: 8-Pin Plastic Small Outline, Body 4.9 x 3.9 mm, Pitch 1.27 mm; Supplier 1: Digi-Key; Supplier Part Number 1: TLV0838CPWG4-ND; Supplier 2: Mouser; Supplier Part Number 2: 595-TLV0838CPWG4; Digital Supply(Max)(V): 5.5; Digital Supply(Min)(V): 4.5; Eco-Plan: Green (RoHS & no Sb/Br); INL(Max)(+/-LSB): 1; Mounting Technology: Surface Mount; Code_JEDEC: MS-012; ComponentLink1Description: Manufacturer URL; ComponentLink1URL: http://www.ti.com/; ComponentLink2Description: Datasheet; ComponentLink2URL: http://www.ti.com/general/docs/lit/getliterature.tsp?genericPartNumber=TLC2551&fileType=pdf; ComponentLink3Description: Package Specification; ComponentLink3URL: http://www.ti.com/litv/pdf/msoi002j
footprint TI-D8_N (SOIC, 8-Leads, Body 4.9x3.9mm, Pitch 1.27mm, IPC Medium Density)
footprint TI-D8_L (SOIC, 8-Leads, Body 4.9x3.9mm, Pitch 1.27mm, IPC High Density)
footprint TI-D8_M (SOIC, 8-Leads, Body 4.9x3.9mm, Pitch 1.27mm, IPC Low Density)
pins: 1 ~{CS} (in) "Chip select. A high-to-low transition on the C\S\ input removes SDO from 3-state within a maximum setup time. C\S\ can be used as the FS pin when a dedicated DSP serial port is used.", 2 VREF (in) "External reference input", 3 GND (power) "Ground return for the internal circuitry. Unless otherwise noted, all voltage measurements are with respect to GND.", 4 AIN (in) "Analog input channel", 5 SCLK (in) "Output serial clock. This terminal receives the serial SCLK from the host processor.", 6 VDD (power) "Positive supply voltage", 7 FS (in) "DSP frame sync input. Indication of the start of a serial data frame. Tie this terminal to VDD if not used.", 8 SDO (hiz) "The 3-state serial output for the A/D conversion result. SDO is kept in the high-impedance state until C\S\ falling edge or FS rising edge, whichever occurs first. The output format is MSB first. When FS is not used (FS = 1 (See Datasheet)"

## TLC2551IDG4
designator U?
12-Bit, 400 kSPS ADC, Serial Out, TMS320 Compatible (up to 10 MHz), Single Channel, -40 to 85 degC, 8-pin SOIC (D8), Green (RoHS & no Sb/Br); Manufacturer: Texas Instruments; PartNumber: TLC2551IDG4; # Input Channels: 1; Analog Voltage AV/DD(Max)(V): 5.5; Analog Voltage AV/DD(Min)(V): 4.5; Architecture: SAR; ENOB(Bits): 11.8; Interface: Serial SPI; Resolution(Bits): 12; Sample Rate (max)(SPS): 400k; SFDR(dB): 84; SINAD(dB): 72; SubFamily: Precision ADC (<=10MSPS); DatasheetVersion: SLAS276D; PackageVersion: 4040047-3/M, 06/2011; PackageReference: D8; PackageDescription: 8-Pin Plastic Small Outline, Body 4.9 x 3.9 mm, Pitch 1.27 mm; Supplier 1: Digi-Key; Supplier Part Number 1: TLV0838CPWR-ND; Supplier 2: Mouser; Supplier Part Number 2: 595-TLV0838CPWR; Digital Supply(Max)(V): 5.5; Digital Supply(Min)(V): 4.5; Eco-Plan: Green (RoHS & no Sb/Br); INL(Max)(+/-LSB): 1; Mounting Technology: Surface Mount; Code_JEDEC: MS-012; ComponentLink1Description: Manufacturer URL; ComponentLink1URL: http://www.ti.com/; ComponentLink2Description: Datasheet; ComponentLink2URL: http://www.ti.com/general/docs/lit/getliterature.tsp?genericPartNumber=TLC2551&fileType=pdf; ComponentLink3Description: Package Specification; ComponentLink3URL: http://www.ti.com/litv/pdf/msoi002j
footprint TI-D8_N (SOIC, 8-Leads, Body 4.9x3.9mm, Pitch 1.27mm, IPC Medium Density)
footprint TI-D8_L (SOIC, 8-Leads, Body 4.9x3.9mm, Pitch 1.27mm, IPC High Density)
footprint TI-D8_M (SOIC, 8-Leads, Body 4.9x3.9mm, Pitch 1.27mm, IPC Low Density)
pins: 1 ~{CS} (in) "Chip select. A high-to-low transition on the C\S\ input removes SDO from 3-state within a maximum setup time. C\S\ can be used as the FS pin when a dedicated DSP serial port is used.", 2 VREF (in) "External reference input", 3 GND (power) "Ground return for the internal circuitry. Unless otherwise noted, all voltage measurements are with respect to GND.", 4 AIN (in) "Analog input channel", 5 SCLK (in) "Output serial clock. This terminal receives the serial SCLK from the host processor.", 6 VDD (power) "Positive supply voltage", 7 FS (in) "DSP frame sync input. Indication of the start of a serial data frame. Tie this terminal to VDD if not used.", 8 SDO (hiz) "The 3-state serial output for the A/D conversion result. SDO is kept in the high-impedance state until C\S\ falling edge or FS rising edge, whichever occurs first. The output format is MSB first. When FS is not used (FS = 1 (See Datasheet)"

## TLC2551IDGK
designator U?
12-Bit, 400 kSPS ADC, Serial Out, TMS320 Compatible (up to 10 MHz), Single Channel, -40 to 85 degC, 8-pin SOP (DGK8), Green (RoHS & no Sb/Br); Manufacturer: Texas Instruments; PartNumber: TLC2551IDGK; # Input Channels: 1; Analog Voltage AV/DD(Max)(V): 5.5; Analog Voltage AV/DD(Min)(V): 4.5; Architecture: SAR; ENOB(Bits): 11.8; Interface: Serial SPI; Resolution(Bits): 12; Sample Rate (max)(SPS): 400k; SFDR(dB): 84; SINAD(dB): 72; SubFamily: Precision ADC (<=10MSPS); DatasheetVersion: SLAS276D; PackageVersion: 4073329/E, 05/2006; PackageReference: DGK8; PackageDescription: 8-Pin Thin Small Outline, Body 3 x 3 mm, Pitch 0.65 mm; Supplier 1: Digi-Key; Supplier Part Number 1: TLV0838CPWRG4-ND; Supplier 2: Newark; Supplier Part Number 2: 24K5449; Supplier 3: Mouser; Supplier Part Number 3: 595-TLV0838CPWRG4; Digital Supply(Max)(V): 5.5; Digital Supply(Min)(V): 4.5; Eco-Plan: Green (RoHS & no Sb/Br); INL(Max)(+/-LSB): 1; Mounting Technology: Surface Mount; Code_JEDEC: MO-187; ComponentLink1Description: Manufacturer URL; ComponentLink1URL: http://www.ti.com/; ComponentLink2Description: Datasheet; ComponentLink2URL: http://www.ti.com/general/docs/lit/getliterature.tsp?genericPartNumber=TLC2551&fileType=pdf; ComponentLink3Description: Package Specification; ComponentLink3URL: http://www.ti.com/litv/pdf/mpds028d
footprint TI-DGK8_N (SOP, 8-Leads, Body 3x3mm, Pitch 0.65mm, IPC Medium Density)
footprint TI-DGK8_L (SOP, 8-Leads, Body 3x3mm, Pitch 0.65mm, IPC High Density)
footprint TI-DGK8_M (SOP, 8-Leads, Body 3x3mm, Pitch 0.65mm, IPC Low Density)
pins: 1 ~{CS} (in) "Chip select. A high-to-low transition on the C\S\ input removes SDO from 3-state within a maximum setup time. C\S\ can be used as the FS pin when a dedicated DSP serial port is used.", 2 VREF (in) "External reference input", 3 GND (power) "Ground return for the internal circuitry. Unless otherwise noted, all voltage measurements are with respect to GND.", 4 AIN (in) "Analog input channel", 5 SCLK (in) "Output serial clock. This terminal receives the serial SCLK from the host processor.", 6 VDD (power) "Positive supply voltage", 7 FS (in) "DSP frame sync input. Indication of the start of a serial data frame. Tie this terminal to VDD if not used.", 8 SDO (hiz) "The 3-state serial output for the A/D conversion result. SDO is kept in the high-impedance state until C\S\ falling edge or FS rising edge, whichever occurs first. The output format is MSB first. When FS is not used (FS = 1 (See Datasheet)"

## TLC2551IDGKG4
designator U?
12-Bit, 400 kSPS ADC, Serial Out, TMS320 Compatible (up to 10 MHz), Single Channel, -40 to 85 degC, 8-pin SOP (DGK8), Green (RoHS & no Sb/Br); Manufacturer: Texas Instruments; PartNumber: TLC2551IDGKG4; # Input Channels: 1; Analog Voltage AV/DD(Max)(V): 5.5; Analog Voltage AV/DD(Min)(V): 4.5; Architecture: SAR; ENOB(Bits): 11.8; Interface: Serial SPI; Resolution(Bits): 12; Sample Rate (max)(SPS): 400k; SFDR(dB): 84; SINAD(dB): 72; SubFamily: Precision ADC (<=10MSPS); DatasheetVersion: SLAS276D; PackageVersion: 4073329/E, 05/2006; PackageReference: DGK8; PackageDescription: 8-Pin Thin Small Outline, Body 3 x 3 mm, Pitch 0.65 mm; Supplier 1: Digi-Key; Supplier Part Number 1: 296-2190-5-ND; Supplier 2: Newark; Supplier Part Number 2: 97B4411; Supplier 3: Mouser; Supplier Part Number 3: 595-TLV0838IDW; Digital Supply(Max)(V): 5.5; Digital Supply(Min)(V): 4.5; Eco-Plan: Green (RoHS & no Sb/Br); INL(Max)(+/-LSB): 1; Mounting Technology: Surface Mount; Code_JEDEC: MO-187; ComponentLink1Description: Manufacturer URL; ComponentLink1URL: http://www.ti.com/; ComponentLink2Description: Datasheet; ComponentLink2URL: http://www.ti.com/general/docs/lit/getliterature.tsp?genericPartNumber=TLC2551&fileType=pdf; ComponentLink3Description: Package Specification; ComponentLink3URL: http://www.ti.com/litv/pdf/mpds028d
footprint TI-DGK8_N (SOP, 8-Leads, Body 3x3mm, Pitch 0.65mm, IPC Medium Density)
footprint TI-DGK8_L (SOP, 8-Leads, Body 3x3mm, Pitch 0.65mm, IPC High Density)
footprint TI-DGK8_M (SOP, 8-Leads, Body 3x3mm, Pitch 0.65mm, IPC Low Density)
pins: 1 ~{CS} (in) "Chip select. A high-to-low transition on the C\S\ input removes SDO from 3-state within a maximum setup time. C\S\ can be used as the FS pin when a dedicated DSP serial port is used.", 2 VREF (in) "External reference input", 3 GND (power) "Ground return for the internal circuitry. Unless otherwise noted, all voltage measurements are with respect to GND.", 4 AIN (in) "Analog input channel", 5 SCLK (in) "Output serial clock. This terminal receives the serial SCLK from the host processor.", 6 VDD (power) "Positive supply voltage", 7 FS (in) "DSP frame sync input. Indication of the start of a serial data frame. Tie this terminal to VDD if not used.", 8 SDO (hiz) "The 3-state serial output for the A/D conversion result. SDO is kept in the high-impedance state until C\S\ falling edge or FS rising edge, whichever occurs first. The output format is MSB first. When FS is not used (FS = 1 (See Datasheet)"

## TLC2551IDR
designator U?
12-Bit, 400 kSPS ADC, Serial Out, TMS320 Compatible (up to 10 MHz), Single Channel, -40 to 85 degC, 8-pin SOIC (D8), Green (RoHS & no Sb/Br); Manufacturer: Texas Instruments; PartNumber: TLC2551IDR; # Input Channels: 1; Analog Voltage AV/DD(Max)(V): 5.5; Analog Voltage AV/DD(Min)(V): 4.5; Architecture: SAR; ENOB(Bits): 11.8; Interface: Serial SPI; Resolution(Bits): 12; Sample Rate (max)(SPS): 400k; SFDR(dB): 84; SINAD(dB): 72; SubFamily: Precision ADC (<=10MSPS); DatasheetVersion: SLAS276D; PackageVersion: 4040047-3/M, 06/2011; PackageReference: D8; PackageDescription: 8-Pin Plastic Small Outline, Body 4.9 x 3.9 mm, Pitch 1.27 mm; Supplier 1: Digi-Key; Supplier Part Number 1: TLV0838IDWG4-ND; Supplier 2: Newark; Supplier Part Number 2: 04M0184; Supplier 3: Mouser; Supplier Part Number 3: 595-TLV0838IDWG4; Digital Supply(Max)(V): 5.5; Digital Supply(Min)(V): 4.5; Eco-Plan: Green (RoHS & no Sb/Br); INL(Max)(+/-LSB): 1; Mounting Technology: Surface Mount; Code_JEDEC: MS-012; ComponentLink1Description: Manufacturer URL; ComponentLink1URL: http://www.ti.com/; ComponentLink2Description: Datasheet; ComponentLink2URL: http://www.ti.com/general/docs/lit/getliterature.tsp?genericPartNumber=TLC2551&fileType=pdf; ComponentLink3Description: Package Specification; ComponentLink3URL: http://www.ti.com/litv/pdf/msoi002j
footprint TI-D8_N (SOIC, 8-Leads, Body 4.9x3.9mm, Pitch 1.27mm, IPC Medium Density)
footprint TI-D8_L (SOIC, 8-Leads, Body 4.9x3.9mm, Pitch 1.27mm, IPC High Density)
footprint TI-D8_M (SOIC, 8-Leads, Body 4.9x3.9mm, Pitch 1.27mm, IPC Low Density)
pins: 1 ~{CS} (in) "Chip select. A high-to-low transition on the C\S\ input removes SDO from 3-state within a maximum setup time. C\S\ can be used as the FS pin when a dedicated DSP serial port is used.", 2 VREF (in) "External reference input", 3 GND (power) "Ground return for the internal circuitry. Unless otherwise noted, all voltage measurements are with respect to GND.", 4 AIN (in) "Analog input channel", 5 SCLK (in) "Output serial clock. This terminal receives the serial SCLK from the host processor.", 6 VDD (power) "Positive supply voltage", 7 FS (in) "DSP frame sync input. Indication of the start of a serial data frame. Tie this terminal to VDD if not used.", 8 SDO (hiz) "The 3-state serial output for the A/D conversion result. SDO is kept in the high-impedance state until C\S\ falling edge or FS rising edge, whichever occurs first. The output format is MSB first. When FS is not used (FS = 1 (See Datasheet)"

## TLC2551IDRG4
designator U?
12-Bit, 400 kSPS ADC, Serial Out, TMS320 Compatible (up to 10 MHz), Single Channel, -40 to 85 degC, 8-pin SOIC (D8), Green (RoHS & no Sb/Br); Manufacturer: Texas Instruments; PartNumber: TLC2551IDRG4; # Input Channels: 1; Analog Voltage AV/DD(Max)(V): 5.5; Analog Voltage AV/DD(Min)(V): 4.5; Architecture: SAR; ENOB(Bits): 11.8; Interface: Serial SPI; Resolution(Bits): 12; Sample Rate (max)(SPS): 400k; SFDR(dB): 84; SINAD(dB): 72; SubFamily: Precision ADC (<=10MSPS); DatasheetVersion: SLAS276D; PackageVersion: 4040047-3/M, 06/2011; PackageReference: D8; PackageDescription: 8-Pin Plastic Small Outline, Body 4.9 x 3.9 mm, Pitch 1.27 mm; Supplier 1: Digi-Key; Supplier Part Number 1: TLV0838IDWR-ND; Supplier 2: Mouser; Supplier Part Number 2: 595-TLV0838IDWR; Digital Supply(Max)(V): 5.5; Digital Supply(Min)(V): 4.5; Eco-Plan: Green (RoHS & no Sb/Br); INL(Max)(+/-LSB): 1; Mounting Technology: Surface Mount; Code_JEDEC: MS-012; ComponentLink1Description: Manufacturer URL; ComponentLink1URL: http://www.ti.com/; ComponentLink2Description: Datasheet; ComponentLink2URL: http://www.ti.com/general/docs/lit/getliterature.tsp?genericPartNumber=TLC2551&fileType=pdf; ComponentLink3Description: Package Specification; ComponentLink3URL: http://www.ti.com/litv/pdf/msoi002j
footprint TI-D8_N (SOIC, 8-Leads, Body 4.9x3.9mm, Pitch 1.27mm, IPC Medium Density)
footprint TI-D8_L (SOIC, 8-Leads, Body 4.9x3.9mm, Pitch 1.27mm, IPC High Density)
footprint TI-D8_M (SOIC, 8-Leads, Body 4.9x3.9mm, Pitch 1.27mm, IPC Low Density)
pins: 1 ~{CS} (in) "Chip select. A high-to-low transition on the C\S\ input removes SDO from 3-state within a maximum setup time. C\S\ can be used as the FS pin when a dedicated DSP serial port is used.", 2 VREF (in) "External reference input", 3 GND (power) "Ground return for the internal circuitry. Unless otherwise noted, all voltage measurements are with respect to GND.", 4 AIN (in) "Analog input channel", 5 SCLK (in) "Output serial clock. This terminal receives the serial SCLK from the host processor.", 6 VDD (power) "Positive supply voltage", 7 FS (in) "DSP frame sync input. Indication of the start of a serial data frame. Tie this terminal to VDD if not used.", 8 SDO (hiz) "The 3-state serial output for the A/D conversion result. SDO is kept in the high-impedance state until C\S\ falling edge or FS rising edge, whichever occurs first. The output format is MSB first. When FS is not used (FS = 1 (See Datasheet)"